# EAGLE library part MCP9600 (library FlashPCB_ICs)
MCP9600T-E/MX - IC THERMOCOUPLE TO I2C Technical Specifications: Accuracy: +/-1.5 ÃƒÆ’Ã¢â‚¬Å¡Ãƒâ€šÃ‚Â°C Resolution: +0.0625 ÃƒÆ’Ã¢â‚¬Å¡Ãƒâ€šÃ‚Â°C Component Search: [DATA SHEET NAME] <[FLASHPCB URL]> Datasheet: MCP960X/L0X/RL0X Data Sheet <https://ww1.microchip.com/downloads/en/DeviceDoc/MCP960X-L0X-RL0X-Data-Sheet-20005426F.pdf>
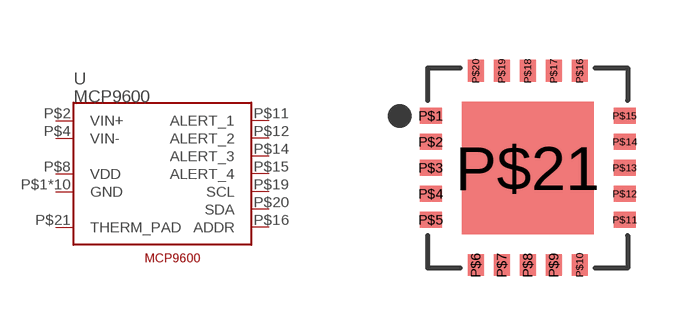
[diagram p58: symbol with the pads of 20-QFN(5X5)-MCP960X; footprint 20-QFN(5X5)-MCP960X]

Designator prefix U

## MCP9600  [20-QFN(5X5)-MCP960X]
P$1  GND  pwr
P$2  VIN+  pwr
P$3  GND  pwr
P$4  VIN-  pwr
P$5  GND  pwr
P$6  GND  pwr
P$7  GND  pwr
P$8  VDD  pwr
P$9  GND  pwr
P$10  GND  pwr
P$11  ALERT_1  out
P$12  ALERT_2  out
P$13  GND  pwr
P$14  ALERT_3  out
P$15  ALERT_4  out
P$16  ADDR
P$17  GND  pwr
P$18  GND  pwr
P$19  SCL
P$20  SDA
P$21  THERM_PAD

## Footprint 20-QFN(5X5)-MCP960X (pad centres in mm)
smd 0.55 x 0.4: P$1 -2.425,1.3; P$2 -2.425,0.65; P$3 -2.425,0; P$4 -2.425,-0.65; P$5 -2.425,-1.3; P$11 2.425,-1.3; P$12 2.425,-0.65; P$13 2.425,0; P$14 2.425,0.65; P$15 2.425,1.3
smd 0.4 x 0.55: P$6 -1.3,-2.425; P$7 -0.65,-2.425; P$8 0,-2.425; P$9 0.65,-2.425; P$10 1.3,-2.425; P$16 1.3,2.425; P$17 0.65,2.425; P$18 0,2.425; P$19 -0.65,2.425; P$20 -1.3,2.425
smd 3.3 x 3.3: P$21 0,0